# EAGLE library part 5X2 (library GMC-4 UBW Loader Library)
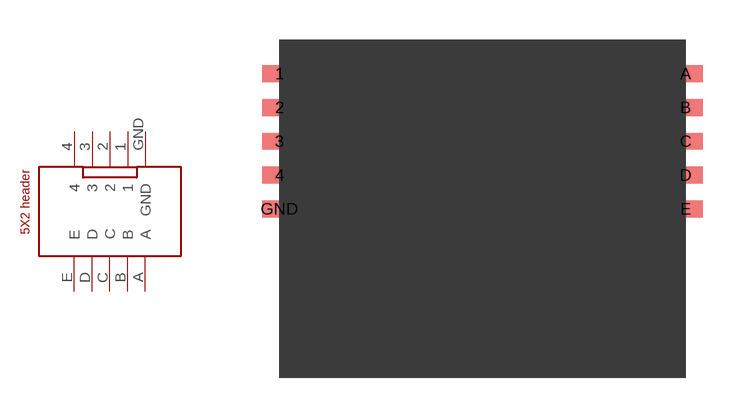
[diagram p1: symbol with the pads of 5X2; footprint 5X2]

Designator prefix -

## 5X2  [5X2]
1  1
2  2
3  3
4  4
A  A
B  B
C  C
D  D
E  E
GND  GND

## Footprint 5X2 (pad centres in mm)
smd 1.27 x 0.635: 1 -7.62,5.08; 2 -7.62,3.81; 3 -7.62,2.54; 4 -7.62,1.27; A 7.62,5.08; B 7.62,3.81; C 7.62,2.54; D 7.62,1.27; E 7.62,0; GND -7.62,0